# Altium schematic symbol library LM386.SchLib: 1 symbol
Pins are listed as number, name and electrical type; pins without a type are passive.

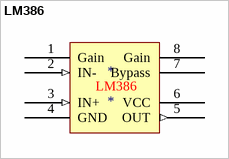
[diagram p0: symbol LM386]

## LM386
designator *
footprint DIP8
pins: 1 Gain, 2 IN- (in), 3 IN+ (in), 4 GND (power), 5 OUT (out), 6 VCC (power), 7 Bypass, 8 Gain